# Altium footprint library SOP6P65_200X210X100L32X20N.PcbLib: 1 footprints
Each footprint in its own frame and in the unit in brackets; x right, y up, seen from the top. Pads: shape width x height; smd on the part's side, far side on the other; paste and mask are expansions set on the pad; w line width, h text height; cw(c..) or ccw(c..) is an arc to the next point about the centre after c.
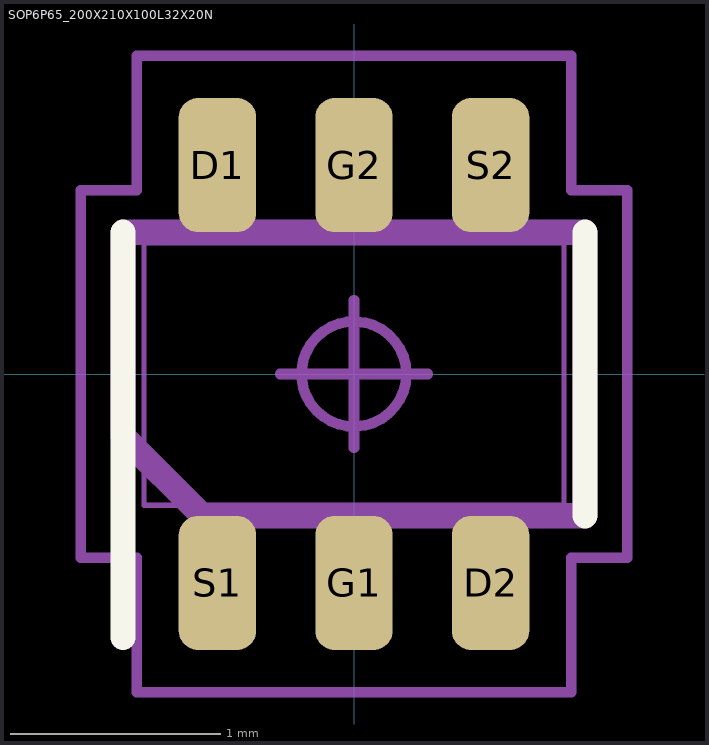
[diagram p0: the footprint, top view; thin cyan lines are the x and y axes]

## SOP6P65_200X210X100L32X20N [mm] "Small Outline Pkg (SOIC, SOP), 0.65 mm pitch; 6 pin, 2.00 mm L X 1.25 mm W X 1.00 mm H Body"
height 1
pads (6):
  rrect50% 0.369x0.64 smd: D1(-0.65,0.995) D2(0.65,-0.995) G1(0,-0.995) G2(0,0.995) S1(-0.65,-0.995) S2(0.65,0.995)
Top Overlay:
  lines w0.12: -1.1,-1.255 -1.1,-0.675 -1.1,0.675 ; 1.1,-0.675 1.1,0.675
Mechanical 3:
  lines w0.12: -1.1,-0.297 -1.1,0.675 1.1,0.675 1.1,-0.675 -0.722,-0.675 -1.1,-0.297
Mechanical 5:
  lines w0.025: -1,-0.625 1,-0.625 1,0.625 -1,0.625 -1,-0.625 ; -0.75,-1.051 -0.75,-0.726 -0.55,-0.726 -0.55,-1.051 -0.75,-1.051 ; -0.75,0.726 -0.75,1.051 -0.55,1.051 -0.55,0.726 -0.75,0.726 ; -0.1,-1.051 -0.1,-0.726 0.1,-0.726 0.1,-1.051 -0.1,-1.051 ; -0.1,0.726 -0.1,1.051 0.1,1.051 0.1,0.726 -0.1,0.726 ; 0.55,-1.051 0.55,-0.726 0.75,-0.726 0.75,-1.051 0.55,-1.051 ; 0.55,0.726 0.55,1.051 0.75,1.051 0.75,0.726 0.55,0.726
Mechanical 7:
  circle w0.05: c0,0 r0.25
  lines w0.05: -0.35,0 0.35,0 ; 0,-0.35 0,0.35 ; -1.3,-0.875 -1.035,-0.875 -1.035,-1.515 1.035,-1.515 1.035,-0.875 1.3,-0.875 1.3,0.875 1.035,0.875 1.035,1.515 -1.035,1.515 -1.035,0.875 -1.3,0.875 -1.3,-0.875
Mechanical 9:
  text "'.Designator'" at -5.817,-0.271 h1.02
3D body "SOP6P65_200X210X100L32X20.STEP": height 1, standoff 0, extent -1,-1.05 1,1.05
3D body: height 1, standoff 0, extent -1.3,-1.515 1.3,1.515